# Altium footprint library PEPLLIB.PcbLib: 78 footprints (part 5 of 5)
Each footprint in its own frame and in the unit in brackets; x right, y up, seen from the top. Pads: shape width x height; smd on the part's side, far side on the other; paste and mask are expansions set on the pad; w line width, h text height; cw(c..) or ccw(c..) is an arc to the next point about the centre after c.
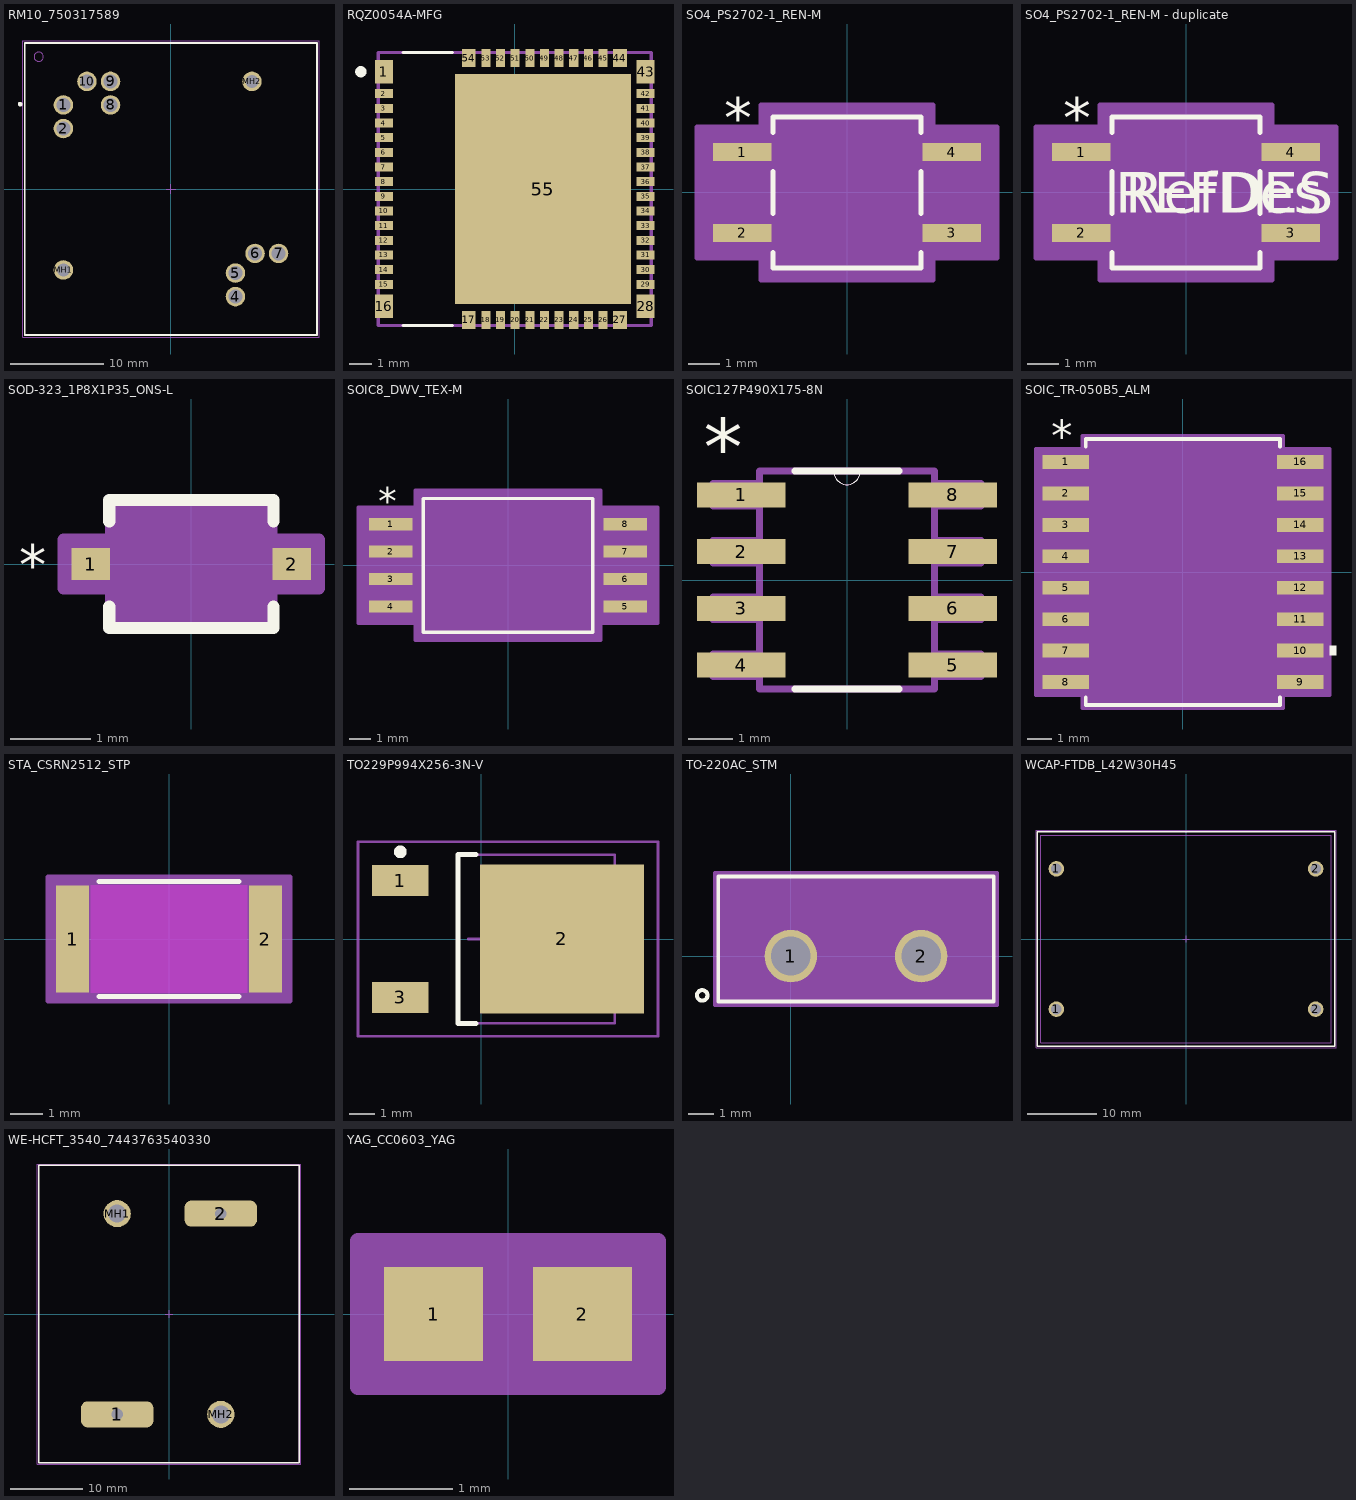
[diagram p4: the footprints below, top view; thin cyan lines are the x and y axes]

## RM10_750317589 [mm] "Offline Flyback Transformer, THT, body 31.50 x 31.50 mm"
height 20.5
pads (11):
  round 2.1 hole 1.5: 1(-11.595,9.055) 2(-11.595,6.515) 4(6.945,-11.595) 5(6.945,-9.055) 6(9.055,-6.945) 7(11.595,-6.945) 8(-6.515,9.055) 9(-6.515,11.595) 10(-9.055,11.595)
  round 2.1 hole 1.4: MH1(-11.595,-8.725) MH2(8.725,11.595)
Top Overlay:
  circle w0.25: c-16.25,9.15 r0.125
  lines w0.2: -15.75,-15.75 -15.75,15.75 15.75,15.75 15.75,-15.75 -15.75,-15.75
Top Courtyard:
  lines w0.05: -15.95,-15.95 -15.95,15.95 15.95,15.95 15.95,-15.95 -15.95,-15.95
Top Component Outline:
  circle w0.1: c-14.25,14.25 r0.5
  lines w0.1: -15.75,-15.75 -15.75,15.75 15.75,15.75 15.75,-15.75 -15.75,-15.75
Top Component Center:
  lines w0.05: -0.5,0 0.5,0 ; 0,-0.5 0,0.5
3D body "Download_STP_070-6920_MP3 (rev1).STEP": height 19.25, standoff -2.72, extent -13.855,-13.339 13.342,13.858

## RQZ0054A-MFG [mm]
pads (55):
  rect 0.8x1.05 smd paste+0 mask+0: 1(-5.8,5.2) 16(-5.8,-5.2) 28(5.8,-5.2) 43(5.8,5.2)
  rect 0.8x0.4 smd paste+0 mask+0: 2(-5.8,4.225) 3(-5.8,3.575) 4(-5.8,2.925) 5(-5.8,2.275) 6(-5.8,1.625) 7(-5.8,0.975) 8(-5.8,0.325) 9(-5.8,-0.325) 10(-5.8,-0.975) 11(-5.8,-1.625) 12(-5.8,-2.275) 13(-5.8,-2.925) 14(-5.8,-3.575) 15(-5.8,-4.225) 29(5.8,-4.225) 30(5.8,-3.575) 31(5.8,-2.925) 32(5.8,-2.275) 33(5.8,-1.625) 34(5.8,-0.975) 35(5.8,-0.325) 36(5.8,0.325) 37(5.8,0.975) 38(5.8,1.625) 39(5.8,2.275) 40(5.8,2.925) 41(5.8,3.575) 42(5.8,4.225)
  rect 0.6x0.8 smd paste+0 mask+0: 17(-2.035,-5.8) 27(4.665,-5.8) 44(4.665,5.8) 54(-2.035,5.8)
  rect 0.4x0.8 smd paste+0 mask+0: 18(-1.285,-5.8) 19(-0.635,-5.8) 20(0.015,-5.8) 21(0.665,-5.8) 22(1.315,-5.8) 23(1.965,-5.8) 24(2.615,-5.8) 25(3.265,-5.8) 26(3.915,-5.8) 45(3.915,5.8) 46(3.265,5.8) 47(2.615,5.8) 48(1.965,5.8) 49(1.315,5.8) 50(0.665,5.8) 51(0.015,5.8) 52(-0.635,5.8) 53(-1.285,5.8)
  rect 7.8x10.2 smd paste-5.087 mask+0: 55(1.25,0)
Top Overlay:
  circle w0.25: c-6.825,5.2 r0.125
  lines w0.15: -4.955,-6.05 -2.78,-6.05 ; -4.955,6.05 -2.78,6.05
Top Paste:
  drawing of 48 lines, arcs and shapes, not listed
Mechanical 13:
  lines w0.15: -6.05,-6.05 6.05,-6.05 6.05,6.05 -6.05,6.05 -6.05,-6.05
3D body "RQZ0054A.stp": height 0.9, standoff 0, extent -6.1,-6 5.9,6

## SO4_PS2702-1_REN-M [mil]
pads (4):
  rect 72x22 smd paste+0 mask+0: 1(-129.5,50) 2(-129.5,-50) 3(129.5,-50) 4(129.5,50)
Top Overlay:
  lines w6: -91.5,-73.95 -91.5,-93.5 91.5,-93.5 91.5,-73.95 ; -91.5,-26.05 -91.5,26.05 ; -91.5,73.95 -91.5,93.5 91.5,93.5 91.5,73.95 ; 91.5,-26.05 91.5,26.05
  text "*" at -152,67 h50
Mechanical 13:
  lines w0: -12,88.5 ccw(c0,88.5) 12,88.5
  lines w1: -143.5,-60 -143.5,-40 -86.5,-40 -86.5,-60 -143.5,-60 ; -143.5,40 -143.5,60 -86.5,60 -86.5,40 -143.5,40 ; -86.5,-88.5 86.5,-88.5 86.5,88.5 -86.5,88.5 -86.5,-88.5 ; 86.5,-60 86.5,-40 143.5,-40 143.5,-60 86.5,-60 ; 86.5,40 86.5,60 143.5,60 143.5,40 86.5,40
  text "*" at -84,35.5 h50
Mechanical 15:
  region: -106.5,-81 -185.5,-81 -185.5,81 -106.5,81 -106.5,108.5 106.5,108.5 106.5,81 185.5,81 185.5,-81 106.5,-81 106.5,-108.5 -106.5,-108.5
  lines w6: -185.5,-81 -185.5,81 -106.5,81 -106.5,108.5 106.5,108.5 106.5,81 185.5,81 185.5,-81 106.5,-81 106.5,-108.5 -106.5,-108.5 -106.5,-81 -185.5,-81
3D body "SO4_PS2702-1_REN.step": height 91.1, standoff 0, extent -143.5,-88.5 143.5,88.5

## SO4_PS2702-1_REN-M - duplicate [mil]
pads (4):
  rect 72x22 smd paste+0 mask+0: 1(-129.5,50) 2(-129.5,-50) 3(129.5,-50) 4(129.5,50)
Top Overlay:
  lines w6: -91.5,-73.95 -91.5,-93.5 91.5,-93.5 91.5,-73.95 ; -91.5,-26.05 -91.5,26.05 ; -91.5,73.95 -91.5,93.5 91.5,93.5 91.5,73.95 ; 91.5,-26.05 91.5,26.05
  text "REFDES" at -87.5,-25 h50
  text "*" at -152,67 h50
  text "RefDes" at -75,-25 h50
Mechanical 13:
  lines w0: -12,88.5 ccw(c0,88.5) 12,88.5
  lines w1: -143.5,-60 -143.5,-40 -86.5,-40 -86.5,-60 -143.5,-60 ; -143.5,40 -143.5,60 -86.5,60 -86.5,40 -143.5,40 ; -86.5,-88.5 86.5,-88.5 86.5,88.5 -86.5,88.5 -86.5,-88.5 ; 86.5,-60 86.5,-40 143.5,-40 143.5,-60 86.5,-60 ; 86.5,40 86.5,60 143.5,60 143.5,40 86.5,40
  text "*" at -84,35.5 h50
  text "RefDes2" at -87.5,-25 h50
Mechanical 15:
  region: -106.5,-81 -185.5,-81 -185.5,81 -106.5,81 -106.5,108.5 106.5,108.5 106.5,81 185.5,81 185.5,-81 106.5,-81 106.5,-108.5 -106.5,-108.5
  lines w6: -185.5,-81 -185.5,81 -106.5,81 -106.5,108.5 106.5,108.5 106.5,81 185.5,81 185.5,-81 106.5,-81 106.5,-108.5 -106.5,-108.5 -106.5,-81 -185.5,-81
3D body "SO4_PS2702-1_REN.step": height 91.1, standoff 0, extent -143.5,-88.5 143.5,88.5

## SOD-323_1P8X1P35_ONS-L [mil]
pads (2):
  rect 19x16 smd paste+0 mask+0: 1(-49.5,0) 2(49.5,0)
Top Overlay:
  lines w6: -40.5,-21.1 -40.5,-31.5 40.5,-31.5 40.5,-21.1 ; -40.5,21.1 -40.5,31.5 40.5,31.5 40.5,21.1
  text "*" at -85,-10 h19.68
Mechanical 13:
  lines w1: -35.5,-13.25 -22.25,-26.5 ; -35.5,13.25 -22.25,26.5 ; -53,-8 -53,8 -35.5,8 -35.5,-8 -53,-8 ; -35.5,-26.5 35.5,-26.5 35.5,26.5 -35.5,26.5 -35.5,-26.5 ; 35.5,-8 35.5,8 53,8 53,-8 35.5,-8
Mechanical 15:
  region: -39.5,-12 -63,-12 -63,12 -39.5,12 -39.5,30.5 39.5,30.5 39.5,12 63,12 63,-12 39.5,-12 39.5,-30.5 -39.5,-30.5
  lines w6: -63,-12 -63,12 -39.5,12 -39.5,30.5 39.5,30.5 39.5,12 63,12 63,-12 39.5,-12 39.5,-30.5 -39.5,-30.5 -39.5,-12 -63,-12

## SOIC8_DWV_TEX-M [mil]
pads (8):
  rect 79x22 smd paste+0 mask+0: 1(-214,75) 2(-214,25) 3(-214,-25) 4(-214,-75) 5(214,-75) 6(214,-25) 7(214,25) 8(214,75)
Top Overlay:
  lines w6: -154.5,-122 154.5,-122 154.5,122 -154.5,122 -154.5,-122
  text "*" at -236.5,92 h50
Mechanical 13:
  lines w0: -12,117 ccw(c0,117) 12,117
  lines w1: -231.5,-85 -231.5,-65 -149.5,-65 -149.5,-85 -231.5,-85 ; -231.5,-35 -231.5,-15 -149.5,-15 -149.5,-35 -231.5,-35 ; -231.5,15 -231.5,35 -149.5,35 -149.5,15 -231.5,15 ; -231.5,65 -231.5,85 -149.5,85 -149.5,65 -231.5,65 ; -149.5,-117 149.5,-117 149.5,117 -149.5,117 -149.5,-117 ; 149.5,-85 149.5,-65 231.5,-65 231.5,-85 149.5,-85 ; 149.5,-35 149.5,-15 231.5,-15 231.5,-35 149.5,-35 ; 149.5,15 149.5,35 231.5,35 231.5,15 149.5,15 ; 149.5,65 149.5,85 231.5,85 231.5,65 149.5,65
  text "*" at -147,64 h50
Mechanical 15:
  region: -169.5,-106 -273.5,-106 -273.5,106 -169.5,106 -169.5,137 169.5,137 169.5,106 273.5,106 273.5,-106 169.5,-106 169.5,-137 -169.5,-137
  lines w6: -273.5,-106 -273.5,106 -169.5,106 -169.5,137 169.5,137 169.5,106 273.5,106 273.5,-106 169.5,-106 169.5,-137 -169.5,-137 -169.5,-106 -273.5,-106
3D body "SOIC8_DWV_TEX.step": height 110.12, standoff 0, extent -231.5,-117.01 231.5,117.01

## SOIC127P490X175-8N [mil]
pads (8):
  rect 78x22 smd: 1(-93,75) 2(-93,25) 3(-93,-25) 4(-93,-75) 5(93,-75) 6(93,-25) 7(93,25) 8(93,75)
Top Overlay:
  lines w0: -12,96 ccw(c0,96) 12,96
  lines w6: -46,-96 46,-96 ; -46,96 -12,96 12,96 46,96
  text "*" at -126.15,92.11 h50.06
Mechanical 13:
  lines w0: -12,96 ccw(c0,96) 12,96
  lines w6: -118,-85 -77,-85 -77,-65 -118,-65 -118,-85 ; -118,-35 -77,-35 -77,-15 -118,-15 -118,-35 ; -118,15 -77,15 -77,35 -118,35 -118,15 ; -118,65 -77,65 -77,85 -118,85 -118,65 ; -77,-96 -77,96 -12,96 12,96 77,96 77,-96 -77,-96 ; 77,-85 118,-85 118,-65 77,-65 77,-85 ; 77,-35 118,-35 118,-15 77,-15 77,-35 ; 77,15 118,15 118,35 77,35 77,15 ; 77,65 118,65 118,85 77,85 77,65
  text "*" at -126.09,92.06 h50.03
3D body "MCP1727T-3302E_SN.step": height 68.9, standoff 0, extent -118.11,-96.46 118.11,96.46

## SOIC_TR-050B5_ALM [mil]
pads (16):
  rect 74x22 smd paste+0 mask+0: 1(-186.5,175) 2(-186.5,125) 3(-186.5,75) 4(-186.5,25) 5(-186.5,-25) 6(-186.5,-75) 7(-186.5,-125) 8(-186.5,-175) 9(186.5,-175) 10(186.5,-125) 11(186.5,-75) 12(186.5,-25) 13(186.5,25) 14(186.5,75) 15(186.5,125) 16(186.5,175)
Top Overlay:
  region: 233.5,-117.5 243.5,-117.5 243.5,-132.5 233.5,-132.5
  lines w6: -154.5,-199.1 -154.5,-211.5 154.5,-211.5 154.5,-199.1 ; -154.5,199.1 -154.5,211.5 154.5,211.5 154.5,199.1
  text "*" at -209,192 h50
Mechanical 13:
  lines w0: -12,206.5 ccw(c0,206.5) 12,206.5
  lines w1: -209.5,-185 -209.5,-165 -149.5,-165 -149.5,-185 -209.5,-185 ; -209.5,-135 -209.5,-115 -149.5,-115 -149.5,-135 -209.5,-135 ; -209.5,-85 -209.5,-65 -149.5,-65 -149.5,-85 -209.5,-85 ; -209.5,-35 -209.5,-15 -149.5,-15 -149.5,-35 -209.5,-35 ; -209.5,15 -209.5,35 -149.5,35 -149.5,15 -209.5,15 ; -209.5,65 -209.5,85 -149.5,85 -149.5,65 -209.5,65 ; -209.5,115 -209.5,135 -149.5,135 -149.5,115 -209.5,115 ; -209.5,165 -209.5,185 -149.5,185 -149.5,165 -209.5,165 ; -149.5,-206.5 149.5,-206.5 149.5,206.5 -149.5,206.5 -149.5,-206.5 ; 149.5,-185 149.5,-165 209.5,-165 209.5,-185 149.5,-185 ; 149.5,-135 149.5,-115 209.5,-115 209.5,-135 149.5,-135 ; 149.5,-85 149.5,-65 209.5,-65 209.5,-85 149.5,-85 ; 149.5,-35 149.5,-15 209.5,-15 209.5,-35 149.5,-35 ; 149.5,15 149.5,35 209.5,35 209.5,15 149.5,15 ; 149.5,65 149.5,85 209.5,85 209.5,65 149.5,65 ; 149.5,115 149.5,135 209.5,135 209.5,115 149.5,115 ; 149.5,165 149.5,185 209.5,185 209.5,165 149.5,165
  text "*" at -147,153.5 h50
Mechanical 15:
  region: -159.5,-196 -233.5,-196 -233.5,196 -159.5,196 -159.5,216.5 159.5,216.5 159.5,196 233.5,196 233.5,-196 159.5,-196 159.5,-216.5 -159.5,-216.5
  lines w6: -233.5,-196 -233.5,196 -159.5,196 -159.5,216.5 159.5,216.5 159.5,196 233.5,196 233.5,-196 159.5,-196 159.5,-216.5 -159.5,-216.5 -159.5,-196 -233.5,-196
3D body "SOIC_TR-050B5_ALM.step": height 104.09, standoff 0, extent -209.49,-206.5 209.49,206.5

## STA_CSRN2512_STP [mil]
pads (2):
  rect 40x130 smd paste+0 mask+0: 1(-117,0) 2(117,0)
Top Layer keep-out:
  region: -95,-63 -95,63 95,63 95,-63
Top Overlay:
  lines w6: -84.89,-70 84.89,-70 ; -84.89,70 84.89,70
Keep-Out Layer:
  region: -95,-65 -95,65 95,65 95,-65
Mechanical 13:
  lines w1: -129,-65 -129,65 ; -129,-65 -97,-65 -97,65 -129,65 ; -129,-65 129,-65 ; -129,-65 -129,65 ; -129,65 129,65 ; 129,-65 97,-65 97,65 129,65 ; 129,-65 129,65 ; 129,-65 129,65
Mechanical 15:
  region: 147,-75 -147,-75 -147,75 147,75
  lines w6: -147,-75 -147,75 147,75 147,-75 -147,-75
3D body "STA_CSRN2512_STP.step": height 27.99, standoff 0, extent -129.02,-65 129.02,65

## TO229P994X256-3N-V [mm] "TO,2.29mm pitch;2 pin,9.94mm L X 6.095mm W X 2.56mm H body"
height 2.56
pads (3):
  rect 2.2x1.2 smd paste+0 mask+0: 1(-3.15,2.28) 3(-3.15,-2.28)
  rect 6.4x5.8 smd paste+0 mask+0: 2(3.15,0)
Top Overlay:
  circle w0.25: c-3.15,3.4 r0.125
  lines w0.2: -0.2,-3.3 -0.9,-3.3 -0.9,3.3 -0.2,3.3
Mechanical 13:
  lines w0.1: -0.875,-3.282 5.22,-3.282 5.22,3.282 -0.875,3.282 -0.875,-3.282
Mechanical 15:
  lines w0.1: -0.5,0 0.5,0 ; 0,-0.5 0,0.5 ; -4.8,-3.8 -4.8,3.8 6.9,3.8 6.9,-3.8 -4.8,-3.8
3D body "PG-TO252-3-313.stp": height 2.36, standoff 0, extent -3.94,-3.25 6.04,3.25

## TO-220AC_STM [mil]
pads (2):
  round 80 / inner round 60 / far side round 80 hole 60: 1(0,0) 2(198.82,0)
Top Overlay:
  circle w6: c-135,-60 r8
  lines w6: -110.59,-69.5 309.41,-69.5 309.41,121.5 -110.59,121.5 -110.59,-69.5
Mechanical 13:
  circle w0: c-85.59,0 r8
  lines w1: -105.59,-64.5 304.41,-64.5 304.41,116.5 -105.59,116.5 -105.59,-64.5
  lines w6: -10,0 10,0 ; 0,-10 0,10
Mechanical 15:
  region: 314.41,-74.5 -115.59,-74.5 -115.59,126.5 314.41,126.5
  lines w6: -115.59,-74.5 -115.59,126.5 314.41,126.5 314.41,-74.5 -115.59,-74.5
3D body "TO-220AC_STM.step": height 620, standoff -255, extent -105.59,-64.49 304.41,116.5

## WCAP-FTDB_L42W30H45 [mm] "Film Capacitor, THT, body 42.00x30.00mm"
height 45
pads (4):
  round 2.25 hole 1.5: 1(-18.75,-10.15) 1(-18.75,10.15) 2(18.75,-10.15) 2(18.75,10.15)
Top Overlay:
  lines w0.2: -21.5,-15.5 21.5,-15.5 21.5,15.5 -21.5,15.5 -21.5,-15.5
Top Courtyard:
  lines w0.05: -21.7,-15.7 21.7,-15.7 21.7,15.7 -21.7,15.7 -21.7,-15.7
Top Designator:
  text ".Designator" at -7.498,-0.5 h1.5
Top Component Outline:
  lines w0.1: -21,-15 21,-15 21,15 -21,15 -21,-15
Top Component Center:
  lines w0.05: -0.5,0 0.5,0 ; 0,-0.5 0,0.5
3D body "37,5x42x30x45.stp": height 45, standoff -4, extent -21,-15 21,15

## WE-HCFT_3540_7443763540330 [mm] "THT High Current Inductor, body 36x41mm"
height 35
pads (4):
  rrect50% 10x3.6 hole 1.6 square: 1(-7.15,-13.85) 2(7.15,13.85)
  round 3.75 hole 2.5: MH1(-7.15,13.85) MH2(7.15,-13.85)
Top Overlay:
  lines w0.2: -18,-20.5 18,-20.5 18,20.5 -18,20.5 -18,-20.5
Top Courtyard:
  lines w0.05: -18.2,-20.7 -18.2,20.7 18.2,20.7 18.2,-2.5 18.2,-20.7 -18.2,-20.7
Top Designator:
  text ".Designator" at -3.647,-0.357 h1
Top 3D Body:
  lines w0.1: -18,-20.5 -18,20.5 18,20.5 18,-20.5 -18,-20.5
Top Assembly:
  lines w0.1: -18,-20.5 18,-20.5 18,20.5 -18,20.5 -18,-20.5
Top Component Center:
  lines w0.1: -0.5,0 0.5,0 ; 0,-0.5 0,0.5
3D body "3540_7443763540xxx_0,8 wire.stp": height 33.45, standoff -3.45, extent -17.6,-20.26 17.6,20.25

## YAG_CC0603_YAG [mil]
pads (2):
  rect 38x36 smd paste+0 mask+0: 1(-28.5,0) 2(28.5,0)
Mechanical 13:
  lines w1: -33.5,-18 -33.5,18 ; -33.5,-18 33.5,-18 ; -33.5,-18 -9.5,-18 -9.5,18 -33.5,18 ; -33.5,-18 -33.5,18 ; -33.5,18 33.5,18 ; 33.5,-18 33.5,18 ; 33.5,-18 33.5,18 ; 33.5,-18 9.5,-18 9.5,18 33.5,18
Mechanical 15:
  region: 57.5,-28 -57.5,-28 -57.5,28 57.5,28
  lines w6: -57.5,-28 57.5,-28 57.5,28 -57.5,28 -57.5,-28
3D body "YAG_CC0603_YAG.step": height 35.98, standoff 0, extent -33.5,-17.99 33.5,17.99